# Altium footprint library Diodes.PcbLib: 20 footprints (part 2 of 2)
Each footprint in its own frame and in the unit in brackets; x right, y up, seen from the top. Pads: shape width x height; smd on the part's side, far side on the other; paste and mask are expansions set on the pad; w line width, h text height; cw(c..) or ccw(c..) is an arc to the next point about the centre after c.
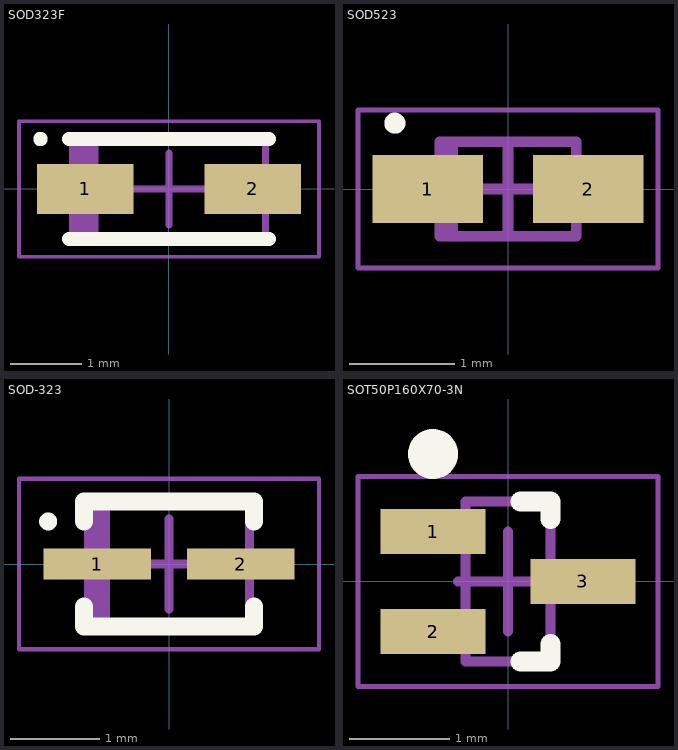
[diagram p1: the footprints below, top view; thin cyan lines are the x and y axes]

## SOD323F [mm] "Molded Diode, 2-Leads, Body 2,50x1,25mm, IPC Medium Density"
height 0.8
pads (2):
  rect 1.35x0.7 smd: 1(-1.175,0) 2(1.175,0)
Top Overlay:
  circle w0.1: c-1.8,0.7 r0.05
  lines w0.2: -1.4,-0.7 1.4,-0.7 ; -1.4,0.7 1.4,0.7
Mechanical 13:
  rectangle: -1.35,-0.675 -0.987,0.675
  lines w0.1: -1.35,-0.675 -1.35,0.675 1.35,0.675 1.35,-0.675 -1.35,-0.675
Mechanical 15:
  lines w0.05: -2.1,-0.95 -2.1,0.95 2.1,0.95 2.1,-0.95 -2.1,-0.95
  lines w0.1: -0.5,0 0.5,0 ; 0,-0.5 0,0.5
3D body "DIOM2512X08N.step": height 0.8, standoff 0, extent -1.57,-0.675 1.57,0.675

## SOD523 [mm] "Molded Diode, 2-Leads, Body 1,20x0,80mm, IPC Medium Density"
height 0.7
pads (2):
  rect 1.05x0.65 smd: 1(-0.762,0) 2(0.762,0)
Top Overlay:
  circle w0.1: c-1.075,0.625 r0.05
Mechanical 13:
  rectangle: -0.65,-0.45 -0.475,0.45
  lines w0.1: -0.65,-0.45 0.65,-0.45 0.65,0.45 -0.65,0.45 -0.65,-0.45
Mechanical 15:
  lines w0.05: -1.425,-0.75 1.425,-0.75 1.425,0.75 -1.425,0.75 -1.425,-0.75
  lines w0.1: -0.45,0 0.45,0 ; 0,-0.45 0,0.45
3D body: height 0.7, standoff 0, extent -0.65,-0.45 0.65,0.45

## SOD-323 [mm] "Molded Diode, 2-Leads, Body 1,70x1,25mm, IPC Medium Density"
height 1.1
pads (2):
  rect 1.2x0.35 smd: 1(-0.8,0) 2(0.8,0)
Top Overlay:
  circle w0.1: c-1.35,0.475 r0.05
  lines w0.2: -0.95,-0.475 -0.95,-0.7 0.95,-0.7 0.95,-0.475 ; -0.95,0.475 -0.95,0.7 0.95,0.7 0.95,0.475
Mechanical 13:
  rectangle: -0.9,-0.675 -0.658,0.675
  lines w0.1: -0.9,-0.675 -0.9,0.675 0.9,0.675 0.9,-0.675 -0.9,-0.675
Mechanical 15:
  lines w0.05: -1.675,-0.95 -1.675,0.95 1.675,0.95 1.675,-0.95 -1.675,-0.95
  lines w0.1: -0.5,0 0.5,0 ; 0,-0.5 0,0.5
3D body "User Library-SOD2513X11.step": height 1.1, standoff 0, extent -1.35,-0.625 1.35,0.625

## SOT50P160X70-3N [mm] "SOT23, 3-Leads, Body 1,60x1,60mm, Pitch 0,50mm, IPC Medium Density"
height 0.7
pads (3):
  rect 1.05x0.45 smd: 1(-0.75,0.5) 2(-0.75,-0.5) 3(0.75,0)
Top Overlay:
  circle w0.25: c-0.75,1.275 r0.125
  lines w0.2: 0.125,-0.8 0.425,-0.8 0.425,-0.625 ; 0.125,0.8 0.425,0.8 0.425,0.625
Mechanical 13:
  lines w0.1: -0.425,-0.8 -0.425,0.8 0.425,0.8 0.425,-0.8 -0.425,-0.8
Mechanical 15:
  lines w0.05: -1.5,-1.05 -1.5,1.05 1.5,1.05 1.5,-1.05 -1.5,-1.05
  lines w0.1: -0.5,0 0.5,0 ; 0,-0.5 0,0.5
3D body: height 0.7, standoff 0.05, extent -0.425,-0.8 0.425,0.8